# EAGLE library part WE-FB_LT35XX/LT3748_EP7_750370059 (library Wurth_Elektronik_Passive_rev16c)
WE-FB Flyback Transformer LT35xx / LT3748 Characteristics Standard transformers for various output voltages currents available Easy design of custom power supply due to standard circuit and change of transformers and two components for feedback loop Isolation voltage up to 2.5 kV Applications Isolated power design Sensor interfaces Isolated telecom converters Power over Ethernet <http://katalog.we-online.de/media/images/eisos/UtFB_LT_MID_pf2.jpg> Details see: http://katalog.we-online.de/en/pbs/WE-FB_Linear? Updated 2015-04-03 2015 (C) Wurth Elektronik
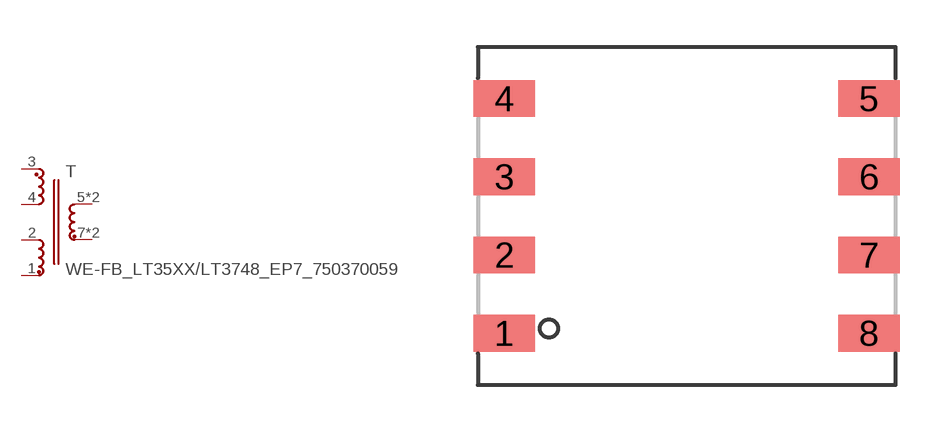
[diagram p79: symbol with the pads of WE_FB_EP7_DIMENSION2; footprint WE_FB_EP7_DIMENSION2]

Designator prefix T

## WE-FB_LT35XX/LT3748_EP7_750370059  [WE_FB_EP7_DIMENSION2]
1  4  pas
2  5  pas
3  1  pas
4  6  pas
5  2  pas
6  2  pas
7  3  pas
8  3  pas

## Footprint WE_FB_EP7_DIMENSION2 (pad centres in mm)
Transformer, EP7* SMD 8Pin für WE-FB
smd 1.96 x 1.17: 1 -5.83,-3.75; 2 -5.83,-1.25; 3 -5.83,1.25; 4 -5.83,3.75; 5 5.83,3.75; 6 5.83,1.25; 7 5.83,-1.25; 8 5.83,-3.75